# Altium schematic symbol library U_74AUP1G14.SchLib: 1 symbol
Pins are listed as number, name and electrical type; pins without a type are passive.

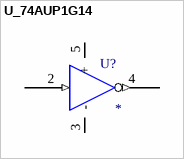
[diagram p0: symbol U_74AUP1G14]

## U_74AUP1G14
designator U?
pins: 2 A (in), 3 - (power), 4 Y (out), 5 + (power)